# Altium integrated library Altium_WCAP-CSMH (rev20a).IntLib: 102 symbols (part 1 of 2)
Pins are listed as number, name and electrical type; pins without a type are passive.

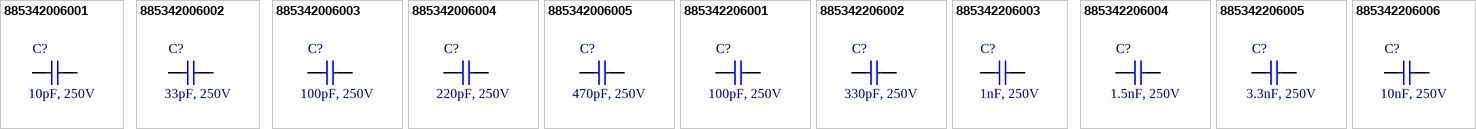
[diagram p0: symbols 885342006001 to 885342206006]

## 885342006001
designator C?, comment 10pF, 250V
WCAP-CSMH Multilayer Ceramic Chip Capacitor, size 0603, NP0 Class I, 10pF, 250V; Manufacturer Part Number: 885342006001; Manufacturer: Wurth Elektronik; Rated Voltage: 250VDC; Insulation Resistance: 10GOhm; Capacitance Tolerance: +/-5%; Technical Reference: NP00603100J250DFCT10000; ComponentLink1Description: Manufacturer; ComponentLink1URL: http://www.we-online.de; ComponentLink2Description: Datasheet; ComponentLink2URL: https://www.we-online.com/catalog/datasheet/885342006001.pdf; Mounting Technology: SMT; Operating Temperature: -55 to +125degC; Published Date: May 2020; Packaging: Tape and Reel; Ceramic Type: NP0 Class I; Capacitance: 10pF; Dissipation Factor: -; Height: 0.8mm; Size: 0603
footprint WCAP-CSMH_0603_H0.8_Wave
footprint WCAP-CSMH_0603_H0.8_Reflow
pins: 1, 2

## 885342006002
designator C?, comment 33pF, 250V
WCAP-CSMH Multilayer Ceramic Chip Capacitor, size 0603, NP0 Class I, 33pF, 250V; Manufacturer Part Number: 885342006002; Manufacturer: Wurth Elektronik; Rated Voltage: 250VDC; Insulation Resistance: 10GOhm; Capacitance Tolerance: +/-5%; Technical Reference: NP00603330J250DFCT10000; ComponentLink1Description: Manufacturer; ComponentLink1URL: http://www.we-online.de; ComponentLink2Description: Datasheet; ComponentLink2URL: https://www.we-online.com/catalog/datasheet/885342006002.pdf; Mounting Technology: SMT; Operating Temperature: -55 to +125degC; Published Date: May 2020; Packaging: Tape and Reel; Ceramic Type: NP0 Class I; Capacitance: 33pF; Dissipation Factor: -; Height: 0.8mm; Size: 0603
footprint WCAP-CSMH_0603_H0.8_Wave
footprint WCAP-CSMH_0603_H0.8_Reflow
pins: 1, 2

## 885342006003
designator C?, comment 100pF, 250V
WCAP-CSMH Multilayer Ceramic Chip Capacitor, size 0603, NP0 Class I, 100pF, 250V; Manufacturer Part Number: 885342006003; Manufacturer: Wurth Elektronik; Rated Voltage: 250VDC; Insulation Resistance: 10GOhm; Capacitance Tolerance: +/-5%; Technical Reference: NP00603101J250DFCT10000; ComponentLink1Description: Manufacturer; ComponentLink1URL: http://www.we-online.de; ComponentLink2Description: Datasheet; ComponentLink2URL: https://www.we-online.com/catalog/datasheet/885342006003.pdf; Mounting Technology: SMT; Operating Temperature: -55 to +125degC; Published Date: May 2020; Packaging: Tape and Reel; Ceramic Type: NP0 Class I; Capacitance: 100pF; Dissipation Factor: -; Height: 0.8mm; Size: 0603
footprint WCAP-CSMH_0603_H0.8_Wave
footprint WCAP-CSMH_0603_H0.8_Reflow
pins: 1, 2

## 885342006004
designator C?, comment 220pF, 250V
WCAP-CSMH Multilayer Ceramic Chip Capacitor, size 0603, NP0 Class I, 220pF, 250V; Manufacturer Part Number: 885342006004; Manufacturer: Wurth Elektronik; Rated Voltage: 250VDC; Insulation Resistance: 10GOhm; Capacitance Tolerance: +/-5%; Technical Reference: NP00603221J250DFCT10000; ComponentLink1Description: Manufacturer; ComponentLink1URL: http://www.we-online.de; ComponentLink2Description: Datasheet; ComponentLink2URL: https://www.we-online.com/catalog/datasheet/885342006004.pdf; Mounting Technology: SMT; Operating Temperature: -55 to +125degC; Published Date: May 2020; Packaging: Tape and Reel; Ceramic Type: NP0 Class I; Capacitance: 220pF; Dissipation Factor: -; Height: 0.8mm; Size: 0603
footprint WCAP-CSMH_0603_H0.8_Wave
footprint WCAP-CSMH_0603_H0.8_Reflow
pins: 1, 2

## 885342006005
designator C?, comment 470pF, 250V
WCAP-CSMH Multilayer Ceramic Chip Capacitor, size 0603, NP0 Class I, 470pF, 250V; Manufacturer Part Number: 885342006005; Manufacturer: Wurth Elektronik; Rated Voltage: 250VDC; Insulation Resistance: 10GOhm; Capacitance Tolerance: +/-5%; Technical Reference: NP00603471J250DFCT10000; ComponentLink1Description: Manufacturer; ComponentLink1URL: http://www.we-online.de; ComponentLink2Description: Datasheet; ComponentLink2URL: https://www.we-online.com/catalog/datasheet/885342006005.pdf; Mounting Technology: SMT; Operating Temperature: -55 to +125degC; Published Date: May 2020; Packaging: Tape and Reel; Ceramic Type: NP0 Class I; Capacitance: 470pF; Dissipation Factor: -; Height: 0.8mm; Size: 0603
footprint WCAP-CSMH_0603_H0.8_Wave
footprint WCAP-CSMH_0603_H0.8_Reflow
pins: 1, 2

## 885342206001
designator C?, comment 100pF, 250V
WCAP-CSMH Multilayer Ceramic Chip Capacitor, size 0603, X7R Class II, 100pF, 250V; Manufacturer Part Number: 885342206001; Manufacturer: Wurth Elektronik; Rated Voltage: 250VDC; Insulation Resistance: 10GOhm; Dissipation Factor: 2.5%; Capacitance Tolerance: +/-10%; Technical Reference: X7R0603101K250DFCT10000; ComponentLink1Description: Manufacturer; ComponentLink1URL: http://www.we-online.de; ComponentLink2Description: Datasheet; ComponentLink2URL: https://www.we-online.com/catalog/datasheet/885342206001.pdf; Mounting Technology: SMT; Operating Temperature: -55 to +125degC; Published Date: May 2020; Packaging: Tape and Reel; Ceramic Type: X7R Class II; Capacitance: 100pF; Height: 0.8mm; Size: 0603
footprint WCAP-CSMH_0603_H0.8_Wave
footprint WCAP-CSMH_0603_H0.8_Reflow
pins: 1, 2

## 885342206002
designator C?, comment 330pF, 250V
WCAP-CSMH Multilayer Ceramic Chip Capacitor, size 0603, X7R Class II, 330pF, 250V; Manufacturer Part Number: 885342206002; Manufacturer: Wurth Elektronik; Rated Voltage: 250VDC; Insulation Resistance: 10GOhm; Dissipation Factor: 2.5%; Capacitance Tolerance: +/-10%; Technical Reference: X7R0603331K250DFCT10000; ComponentLink1Description: Manufacturer; ComponentLink1URL: http://www.we-online.de; ComponentLink2Description: Datasheet; ComponentLink2URL: https://www.we-online.com/catalog/datasheet/885342206002.pdf; Mounting Technology: SMT; Operating Temperature: -55 to +125degC; Published Date: May 2020; Packaging: Tape and Reel; Ceramic Type: X7R Class II; Capacitance: 330pF; Height: 0.8mm; Size: 0603
footprint WCAP-CSMH_0603_H0.8_Wave
footprint WCAP-CSMH_0603_H0.8_Reflow
pins: 1, 2

## 885342206003
designator C?, comment 1nF, 250V
WCAP-CSMH Multilayer Ceramic Chip Capacitor, size 0603, X7R Class II, 1nF, 250V; Manufacturer Part Number: 885342206003; Manufacturer: Wurth Elektronik; Rated Voltage: 250VDC; Insulation Resistance: 10GOhm; Dissipation Factor: 2.5%; Capacitance Tolerance: +/-10%; Technical Reference: X7R0603102K250DFCT10000; ComponentLink1Description: Manufacturer; ComponentLink1URL: http://www.we-online.de; ComponentLink2Description: Datasheet; ComponentLink2URL: https://www.we-online.com/catalog/datasheet/885342206003.pdf; Mounting Technology: SMT; Operating Temperature: -55 to +125degC; Published Date: May 2020; Packaging: Tape and Reel; Ceramic Type: X7R Class II; Capacitance: 1nF; Height: 0.8mm; Size: 0603
footprint WCAP-CSMH_0603_H0.8_Wave
footprint WCAP-CSMH_0603_H0.8_Reflow
pins: 1, 2

## 885342206004
designator C?, comment 1.5nF, 250V
WCAP-CSMH Multilayer Ceramic Chip Capacitor, size 0603, X7R Class II, 1.5nF, 250V; Manufacturer Part Number: 885342206004; Manufacturer: Wurth Elektronik; Rated Voltage: 250VDC; Insulation Resistance: 10GOhm; Dissipation Factor: 2.5%; Capacitance Tolerance: +/-10%; Technical Reference: X7R0603152K250DFCT10000; ComponentLink1Description: Manufacturer; ComponentLink1URL: http://www.we-online.de; ComponentLink2Description: Datasheet; ComponentLink2URL: https://www.we-online.com/catalog/datasheet/885342206004.pdf; Mounting Technology: SMT; Operating Temperature: -55 to +125degC; Published Date: May 2020; Packaging: Tape and Reel; Ceramic Type: X7R Class II; Capacitance: 1.5nF; Height: 0.8mm; Size: 0603
footprint WCAP-CSMH_0603_H0.8_Wave
footprint WCAP-CSMH_0603_H0.8_Reflow
pins: 1, 2

## 885342206005
designator C?, comment 3.3nF, 250V
WCAP-CSMH Multilayer Ceramic Chip Capacitor, size 0603, X7R Class II, 3.3nF, 250V; Manufacturer Part Number: 885342206005; Manufacturer: Wurth Elektronik; Rated Voltage: 250VDC; Insulation Resistance: 10GOhm; Dissipation Factor: 2.5%; Capacitance Tolerance: +/-10%; Technical Reference: X7R0603332K250DFCT10000; ComponentLink1Description: Manufacturer; ComponentLink1URL: http://www.we-online.de; ComponentLink2Description: Datasheet; ComponentLink2URL: https://www.we-online.com/catalog/datasheet/885342206005.pdf; Mounting Technology: SMT; Operating Temperature: -55 to +125degC; Published Date: May 2020; Packaging: Tape and Reel; Ceramic Type: X7R Class II; Capacitance: 3.3nF; Height: 0.8mm; Size: 0603
footprint WCAP-CSMH_0603_H0.8_Wave
footprint WCAP-CSMH_0603_H0.8_Reflow
pins: 1, 2

## 885342206006
designator C?, comment 10nF, 250V
WCAP-CSMH Multilayer Ceramic Chip Capacitor, size 0603, X7R Class II, 10nF, 250V; Manufacturer Part Number: 885342206006; Manufacturer: Wurth Elektronik; Rated Voltage: 250VDC; Insulation Resistance: 10GOhm; Dissipation Factor: 2.5%; Capacitance Tolerance: +/-10%; Technical Reference: X7R0603103K250DFCT10000; ComponentLink1Description: Manufacturer; ComponentLink1URL: http://www.we-online.de; ComponentLink2Description: Datasheet; ComponentLink2URL: https://www.we-online.com/catalog/datasheet/885342206006.pdf; Mounting Technology: SMT; Operating Temperature: -55 to +125degC; Published Date: May 2020; Packaging: Tape and Reel; Ceramic Type: X7R Class II; Capacitance: 10nF; Height: 0.8mm; Size: 0603
footprint WCAP-CSMH_0603_H0.8_Wave
footprint WCAP-CSMH_0603_H0.8_Reflow
pins: 1, 2


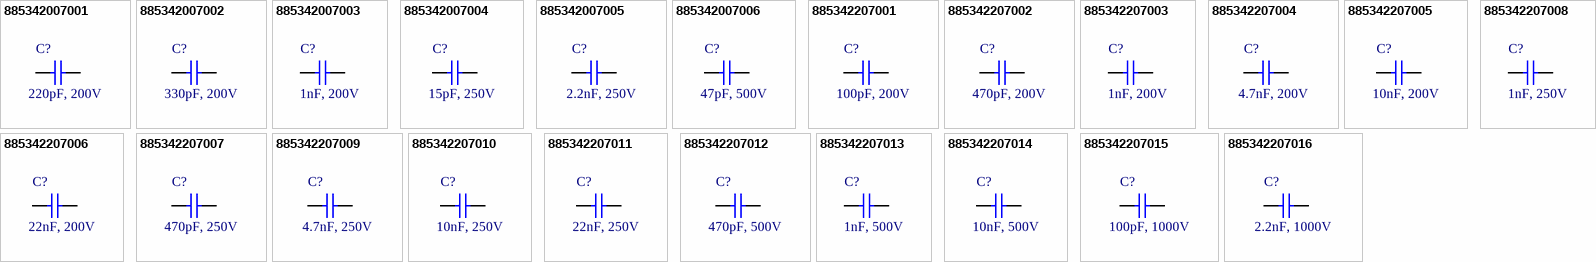
[diagram p1: symbols 885342007001 to 885342207016]

## 885342007001
designator C?, comment 220pF, 200V
WCAP-CSMH Multilayer Ceramic Chip Capacitor, size 0805, NP0 Class I, 220pF, 200V; Manufacturer Part Number: 885342007001; Manufacturer: Wurth Elektronik; Rated Voltage: 200VDC; Insulation Resistance: 10GOhm; Capacitance Tolerance: +/-5%; Technical Reference: NP00805221J200DFCT10000; ComponentLink1Description: Manufacturer; ComponentLink1URL: http://www.we-online.de; ComponentLink2Description: Datasheet; ComponentLink2URL: https://www.we-online.com/catalog/datasheet/885342007001.pdf; Mounting Technology: SMT; Operating Temperature: -55 to +125degC; Published Date: May 2020; Packaging: Tape and Reel; Ceramic Type: NP0 Class I; Capacitance: 220pF; Dissipation Factor: -; Height: 1.25mm; Size: 0805
footprint WCAP-CSMH_0805_H1.25
pins: 1, 2

## 885342007002
designator C?, comment 330pF, 200V
WCAP-CSMH Multilayer Ceramic Chip Capacitor, size 0805, NP0 Class I, 330pF, 200V; Manufacturer Part Number: 885342007002; Manufacturer: Wurth Elektronik; Rated Voltage: 200VDC; Insulation Resistance: 10GOhm; Capacitance Tolerance: +/-5%; Technical Reference: NP00805331J200DFCT10000; ComponentLink1Description: Manufacturer; ComponentLink1URL: http://www.we-online.de; ComponentLink2Description: Datasheet; ComponentLink2URL: https://www.we-online.com/catalog/datasheet/885342007002.pdf; Mounting Technology: SMT; Operating Temperature: -55 to +125degC; Published Date: May 2020; Packaging: Tape and Reel; Ceramic Type: NP0 Class I; Capacitance: 330pF; Dissipation Factor: -; Height: 1.25mm; Size: 0805
footprint WCAP-CSMH_0805_H1.25
pins: 1, 2

## 885342007003
designator C?, comment 1nF, 200V
WCAP-CSMH Multilayer Ceramic Chip Capacitor, size 0805, NP0 Class I, 1nF, 200V; Manufacturer Part Number: 885342007003; Manufacturer: Wurth Elektronik; Rated Voltage: 200VDC; Insulation Resistance: 10GOhm; Capacitance Tolerance: +/-5%; Technical Reference: NP00805102J200DFCT10000; ComponentLink1Description: Manufacturer; ComponentLink1URL: http://www.we-online.de; ComponentLink2Description: Datasheet; ComponentLink2URL: https://www.we-online.com/catalog/datasheet/885342007003.pdf; Mounting Technology: SMT; Operating Temperature: -55 to +125degC; Published Date: May 2020; Packaging: Tape and Reel; Ceramic Type: NP0 Class I; Capacitance: 1nF; Dissipation Factor: -; Height: 1.25mm; Size: 0805
footprint WCAP-CSMH_0805_H1.25
pins: 1, 2

## 885342007004
designator C?, comment 15pF, 250V
WCAP-CSMH Multilayer Ceramic Chip Capacitor, size 0805, NP0 Class I, 15pF, 250V; Manufacturer Part Number: 885342007004; Manufacturer: Wurth Elektronik; Rated Voltage: 250VDC; Insulation Resistance: 10GOhm; Capacitance Tolerance: +/-5%; Technical Reference: NP00805150J250DFCT10000; ComponentLink1Description: Manufacturer; ComponentLink1URL: http://www.we-online.de; ComponentLink2Description: Datasheet; ComponentLink2URL: https://www.we-online.com/catalog/datasheet/885342007004.pdf; Mounting Technology: SMT; Operating Temperature: -55 to +125degC; Published Date: May 2020; Packaging: Tape and Reel; Ceramic Type: NP0 Class I; Capacitance: 15pF; Dissipation Factor: -; Height: 0.6mm; Size: 0805
footprint WCAP-CSMH_0805_H0.6_Wave
footprint WCAP-CSMH_0805_H0.6_Reflow
pins: 1, 2

## 885342007005
designator C?, comment 2.2nF, 250V
WCAP-CSMH Multilayer Ceramic Chip Capacitor, size 0805, NP0 Class I, 2.2nF, 250V; Manufacturer Part Number: 885342007005; Manufacturer: Wurth Elektronik; Rated Voltage: 250VDC; Insulation Resistance: 10GOhm; Capacitance Tolerance: +/-5%; Technical Reference: NP00805222J250DFCT10000; ComponentLink1Description: Manufacturer; ComponentLink1URL: http://www.we-online.de; ComponentLink2Description: Datasheet; ComponentLink2URL: https://www.we-online.com/catalog/datasheet/885342007005.pdf; Mounting Technology: SMT; Operating Temperature: -55 to +125degC; Published Date: May 2020; Packaging: Tape and Reel; Ceramic Type: NP0 Class I; Capacitance: 2.2nF; Dissipation Factor: -; Height: 1.25mm; Size: 0805
footprint WCAP-CSMH_0805_H1.25
pins: 1, 2

## 885342007006
designator C?, comment 47pF, 500V
WCAP-CSMH Multilayer Ceramic Chip Capacitor, size 0805, NP0 Class I, 47pF, 500V; Manufacturer Part Number: 885342007006; Manufacturer: Wurth Elektronik; Rated Voltage: 500VDC; Insulation Resistance: 10GOhm; Capacitance Tolerance: +/-5%; Technical Reference: NP00805470J500DFCT10000; ComponentLink1Description: Manufacturer; ComponentLink1URL: http://www.we-online.de; ComponentLink2Description: Datasheet; ComponentLink2URL: https://www.we-online.com/catalog/datasheet/885342007006.pdf; Mounting Technology: SMT; Operating Temperature: -55 to +125degC; Published Date: May 2020; Packaging: Tape and Reel; Ceramic Type: NP0 Class I; Capacitance: 47pF; Dissipation Factor: -; Height: 0.6mm; Size: 0805
footprint WCAP-CSMH_0805_H0.6_Wave
footprint WCAP-CSMH_0805_H0.6_Reflow
pins: 1, 2

## 885342207001
designator C?, comment 100pF, 200V
WCAP-CSMH Multilayer Ceramic Chip Capacitor, size 0805, X7R Class II, 100pF, 200V; Manufacturer Part Number: 885342207001; Manufacturer: Wurth Elektronik; Rated Voltage: 200VDC; Insulation Resistance: 10GOhm; Dissipation Factor: 2.5%; Capacitance Tolerance: +/-10%; Technical Reference: X7R0805101K200DFCT10000; ComponentLink1Description: Manufacturer; ComponentLink1URL: http://www.we-online.de; ComponentLink2Description: Datasheet; ComponentLink2URL: https://www.we-online.com/catalog/datasheet/885342207001.pdf; Mounting Technology: SMT; Operating Temperature: -55 to +125degC; Published Date: May 2020; Packaging: Tape and Reel; Ceramic Type: X7R Class II; Capacitance: 100pF; Height: 0.8mm; Size: 0805
footprint WCAP-CSMH_0805_H0.8_Wave
footprint WCAP-CSMH_0805_H0.8_Reflow
pins: 1, 2

## 885342207002
designator C?, comment 470pF, 200V
WCAP-CSMH Multilayer Ceramic Chip Capacitor, size 0805, X7R Class II, 470pF, 200V; Manufacturer Part Number: 885342207002; Manufacturer: Wurth Elektronik; Rated Voltage: 200VDC; Insulation Resistance: 10GOhm; Dissipation Factor: 2.5%; Capacitance Tolerance: +/-10%; Technical Reference: X7R0805471K200DFCT10000; ComponentLink1Description: Manufacturer; ComponentLink1URL: http://www.we-online.de; ComponentLink2Description: Datasheet; ComponentLink2URL: https://www.we-online.com/catalog/datasheet/885342207002.pdf; Mounting Technology: SMT; Operating Temperature: -55 to +125degC; Published Date: May 2020; Packaging: Tape and Reel; Ceramic Type: X7R Class II; Capacitance: 470pF; Height: 0.8mm; Size: 0805
footprint WCAP-CSMH_0805_H0.8_Wave
footprint WCAP-CSMH_0805_H0.8_Reflow
pins: 1, 2

## 885342207003
designator C?, comment 1nF, 200V
WCAP-CSMH Multilayer Ceramic Chip Capacitor, size 0805, X7R Class II, 1nF, 200V; Manufacturer Part Number: 885342207003; Manufacturer: Wurth Elektronik; Rated Voltage: 200VDC; Insulation Resistance: 10GOhm; Dissipation Factor: 2.5%; Capacitance Tolerance: +/-10%; Technical Reference: X7R0805102K200DFCT10000; ComponentLink1Description: Manufacturer; ComponentLink1URL: http://www.we-online.de; ComponentLink2Description: Datasheet; ComponentLink2URL: https://www.we-online.com/catalog/datasheet/885342207003.pdf; Mounting Technology: SMT; Operating Temperature: -55 to +125degC; Published Date: May 2020; Packaging: Tape and Reel; Ceramic Type: X7R Class II; Capacitance: 1nF; Height: 0.8mm; Size: 0805
footprint WCAP-CSMH_0805_H0.8_Wave
footprint WCAP-CSMH_0805_H0.8_Reflow
pins: 1, 2

## 885342207004
designator C?, comment 4.7nF, 200V
WCAP-CSMH Multilayer Ceramic Chip Capacitor, size 0805, X7R Class II, 4.7nF, 200V; Manufacturer Part Number: 885342207004; Manufacturer: Wurth Elektronik; Rated Voltage: 200VDC; Insulation Resistance: 10GOhm; Dissipation Factor: 2.5%; Capacitance Tolerance: +/-10%; Technical Reference: X7R0805472K200DFCT10000; ComponentLink1Description: Manufacturer; ComponentLink1URL: http://www.we-online.de; ComponentLink2Description: Datasheet; ComponentLink2URL: https://www.we-online.com/catalog/datasheet/885342207004.pdf; Mounting Technology: SMT; Operating Temperature: -55 to +125degC; Published Date: May 2020; Packaging: Tape and Reel; Ceramic Type: X7R Class II; Capacitance: 4.7nF; Height: 0.8mm; Size: 0805
footprint WCAP-CSMH_0805_H0.8_Wave
footprint WCAP-CSMH_0805_H0.8_Reflow
pins: 1, 2

## 885342207005
designator C?, comment 10nF, 200V
WCAP-CSMH Multilayer Ceramic Chip Capacitor, size 0805, X7R Class II, 10nF, 200V; Manufacturer Part Number: 885342207005; Manufacturer: Wurth Elektronik; Rated Voltage: 200VDC; Insulation Resistance: 10GOhm; Dissipation Factor: 2.5%; Capacitance Tolerance: +/-10%; Technical Reference: X7R0805103K200DFCT10000; ComponentLink1Description: Manufacturer; ComponentLink1URL: http://www.we-online.de; ComponentLink2Description: Datasheet; ComponentLink2URL: https://www.we-online.com/catalog/datasheet/885342207005.pdf; Mounting Technology: SMT; Operating Temperature: -55 to +125degC; Published Date: May 2020; Packaging: Tape and Reel; Ceramic Type: X7R Class II; Capacitance: 10nF; Height: 1.25mm; Size: 0805
footprint WCAP-CSMH_0805_H1.25
pins: 1, 2

## 885342207006
designator C?, comment 22nF, 200V
WCAP-CSMH Multilayer Ceramic Chip Capacitor, size 0805, X7R Class II, 22nF, 200V; Manufacturer Part Number: 885342207006; Manufacturer: Wurth Elektronik; Rated Voltage: 200VDC; Insulation Resistance: 4.545GOhm; Dissipation Factor: 2.5%; Capacitance Tolerance: +/-10%; Technical Reference: X7R0805223K200DFCT10000; ComponentLink1Description: Manufacturer; ComponentLink1URL: http://www.we-online.de; ComponentLink2Description: Datasheet; ComponentLink2URL: https://www.we-online.com/catalog/datasheet/885342207006.pdf; Mounting Technology: SMT; Operating Temperature: -55 to +125degC; Published Date: May 2020; Packaging: Tape and Reel; Ceramic Type: X7R Class II; Capacitance: 22nF; Height: 1.25mm; Size: 0805
footprint WCAP-CSMH_0805_H1.25
pins: 1, 2

## 885342207007
designator C?, comment 470pF, 250V
WCAP-CSMH Multilayer Ceramic Chip Capacitor, size 0805, X7R Class II, 470pF, 250V; Manufacturer Part Number: 885342207007; Manufacturer: Wurth Elektronik; Rated Voltage: 250VDC; Insulation Resistance: 10GOhm; Dissipation Factor: 2.5%; Capacitance Tolerance: +/-10%; Technical Reference: X7R0805471K250DFCT10000; ComponentLink1Description: Manufacturer; ComponentLink1URL: http://www.we-online.de; ComponentLink2Description: Datasheet; ComponentLink2URL: https://www.we-online.com/catalog/datasheet/885342207007.pdf; Mounting Technology: SMT; Operating Temperature: -55 to +125degC; Published Date: May 2020; Packaging: Tape and Reel; Ceramic Type: X7R Class II; Capacitance: 470pF; Height: 0.8mm; Size: 0805
footprint WCAP-CSMH_0805_H0.8_Wave
footprint WCAP-CSMH_0805_H0.8_Reflow
pins: 1, 2

## 885342207008
designator C?, comment 1nF, 250V
WCAP-CSMH Multilayer Ceramic Chip Capacitor, size 0805, X7R Class II, 1nF, 250V; Manufacturer Part Number: 885342207008; Manufacturer: Wurth Elektronik; Rated Voltage: 250VDC; Insulation Resistance: 10GOhm; Dissipation Factor: 2.5%; Capacitance Tolerance: +/-10%; Technical Reference: X7R0805102K250DFCT10000; ComponentLink1Description: Manufacturer; ComponentLink1URL: http://www.we-online.de; ComponentLink2Description: Datasheet; ComponentLink2URL: https://www.we-online.com/catalog/datasheet/885342207008.pdf; Mounting Technology: SMT; Operating Temperature: -55 to +125degC; Published Date: May 2020; Packaging: Tape and Reel; Ceramic Type: X7R Class II; Capacitance: 1nF; Height: 0.8mm; Size: 0805
footprint WCAP-CSMH_0805_H0.8_Wave
footprint WCAP-CSMH_0805_H0.8_Reflow
pins: 1, 2

## 885342207009
designator C?, comment 4.7nF, 250V
WCAP-CSMH Multilayer Ceramic Chip Capacitor, size 0805, X7R Class II, 4.7nF, 250V; Manufacturer Part Number: 885342207009; Manufacturer: Wurth Elektronik; Rated Voltage: 250VDC; Insulation Resistance: 10GOhm; Dissipation Factor: 2.5%; Capacitance Tolerance: +/-10%; Technical Reference: X7R0805472K250DFCT10000; ComponentLink1Description: Manufacturer; ComponentLink1URL: http://www.we-online.de; ComponentLink2Description: Datasheet; ComponentLink2URL: https://www.we-online.com/catalog/datasheet/885342207009.pdf; Mounting Technology: SMT; Operating Temperature: -55 to +125degC; Published Date: May 2020; Packaging: Tape and Reel; Ceramic Type: X7R Class II; Capacitance: 4.7nF; Height: 0.8mm; Size: 0805
footprint WCAP-CSMH_0805_H0.8_Wave
footprint WCAP-CSMH_0805_H0.8_Reflow
pins: 1, 2

## 885342207010
designator C?, comment 10nF, 250V
WCAP-CSMH Multilayer Ceramic Chip Capacitor, size 0805, X7R Class II, 10nF, 250V; Manufacturer Part Number: 885342207010; Manufacturer: Wurth Elektronik; Rated Voltage: 250VDC; Insulation Resistance: 10GOhm; Dissipation Factor: 2.5%; Capacitance Tolerance: +/-10%; Technical Reference: X7R0805103K250DFCT10000; ComponentLink1Description: Manufacturer; ComponentLink1URL: http://www.we-online.de; ComponentLink2Description: Datasheet; ComponentLink2URL: https://www.we-online.com/catalog/datasheet/885342207010.pdf; Mounting Technology: SMT; Operating Temperature: -55 to +125degC; Published Date: May 2020; Packaging: Tape and Reel; Ceramic Type: X7R Class II; Capacitance: 10nF; Height: 1.25mm; Size: 0805
footprint WCAP-CSMH_0805_H1.25
pins: 1, 2

## 885342207011
designator C?, comment 22nF, 250V
WCAP-CSMH Multilayer Ceramic Chip Capacitor, size 0805, X7R Class II, 22nF, 250V; Manufacturer Part Number: 885342207011; Manufacturer: Wurth Elektronik; Rated Voltage: 250VDC; Insulation Resistance: 4.545GOhm; Dissipation Factor: 2.5%; Capacitance Tolerance: +/-10%; Technical Reference: X7R0805223K250DFCT10000; ComponentLink1Description: Manufacturer; ComponentLink1URL: http://www.we-online.de; ComponentLink2Description: Datasheet; ComponentLink2URL: https://www.we-online.com/catalog/datasheet/885342207011.pdf; Mounting Technology: SMT; Operating Temperature: -55 to +125degC; Published Date: May 2020; Packaging: Tape and Reel; Ceramic Type: X7R Class II; Capacitance: 22nF; Height: 1.25mm; Size: 0805
footprint WCAP-CSMH_0805_H1.25
pins: 1, 2

## 885342207012
designator C?, comment 470pF, 500V
WCAP-CSMH Multilayer Ceramic Chip Capacitor, size 0805, X7R Class II, 470pF, 500V; Manufacturer Part Number: 885342207012; Manufacturer: Wurth Elektronik; Rated Voltage: 500VDC; Insulation Resistance: 10GOhm; Dissipation Factor: 2.5%; Capacitance Tolerance: +/-10%; Technical Reference: X7R0805471K500DFCT10000; ComponentLink1Description: Manufacturer; ComponentLink1URL: http://www.we-online.de; ComponentLink2Description: Datasheet; ComponentLink2URL: https://www.we-online.com/catalog/datasheet/885342207012.pdf; Mounting Technology: SMT; Operating Temperature: -55 to +125degC; Published Date: May 2020; Packaging: Tape and Reel; Ceramic Type: X7R Class II; Capacitance: 470pF; Height: 0.8mm; Size: 0805
footprint WCAP-CSMH_0805_H0.8_Wave
footprint WCAP-CSMH_0805_H0.8_Reflow
pins: 1, 2

## 885342207013
designator C?, comment 1nF, 500V
WCAP-CSMH Multilayer Ceramic Chip Capacitor, size 0805, X7R Class II, 1nF, 500V; Manufacturer Part Number: 885342207013; Manufacturer: Wurth Elektronik; Rated Voltage: 500VDC; Insulation Resistance: 10GOhm; Dissipation Factor: 2.5%; Capacitance Tolerance: +/-10%; Technical Reference: X7R0805102K500DFCT10000; ComponentLink1Description: Manufacturer; ComponentLink1URL: http://www.we-online.de; ComponentLink2Description: Datasheet; ComponentLink2URL: https://www.we-online.com/catalog/datasheet/885342207013.pdf; Mounting Technology: SMT; Operating Temperature: -55 to +125degC; Published Date: May 2020; Packaging: Tape and Reel; Ceramic Type: X7R Class II; Capacitance: 1nF; Height: 0.8mm; Size: 0805
footprint WCAP-CSMH_0805_H0.8_Wave
footprint WCAP-CSMH_0805_H0.8_Reflow
pins: 1, 2

## 885342207014
designator C?, comment 10nF, 500V
WCAP-CSMH Multilayer Ceramic Chip Capacitor, size 0805, X7R Class II, 10nF, 500V; Manufacturer Part Number: 885342207014; Manufacturer: Wurth Elektronik; Rated Voltage: 500VDC; Insulation Resistance: 10GOhm; Dissipation Factor: 2.5%; Capacitance Tolerance: +/-10%; Technical Reference: X7R0805103K500DFCT10000; ComponentLink1Description: Manufacturer; ComponentLink1URL: http://www.we-online.de; ComponentLink2Description: Datasheet; ComponentLink2URL: https://www.we-online.com/catalog/datasheet/885342207014.pdf; Mounting Technology: SMT; Operating Temperature: -55 to +125degC; Published Date: May 2020; Packaging: Tape and Reel; Ceramic Type: X7R Class II; Capacitance: 10nF; Height: 1.25mm; Size: 0805
footprint WCAP-CSMH_0805_H1.25
pins: 1, 2

## 885342207015
designator C?, comment 100pF, 1000V
WCAP-CSMH Multilayer Ceramic Chip Capacitor, size 0805, X7R Class II, 100pF, 1000V; Manufacturer Part Number: 885342207015; Manufacturer: Wurth Elektronik; Rated Voltage: 1000VDC; Insulation Resistance: 10GOhm; Dissipation Factor: 2.5%; Capacitance Tolerance: +/-10%; Technical Reference: X7R0805101KA00DFCT10000; ComponentLink1Description: Manufacturer; ComponentLink1URL: http://www.we-online.de; ComponentLink2Description: Datasheet; ComponentLink2URL: https://www.we-online.com/catalog/datasheet/885342207015.pdf; Mounting Technology: SMT; Operating Temperature: -55 to +125degC; Published Date: May 2020; Packaging: Tape and Reel; Ceramic Type: X7R Class II; Capacitance: 100pF; Height: 1.25mm; Size: 0805
footprint WCAP-CSMH_0805_H1.25
pins: 1, 2

## 885342207016
designator C?, comment 2.2nF, 1000V
WCAP-CSMH Multilayer Ceramic Chip Capacitor, size 0805, X7R Class II, 2.2nF, 1000V; Manufacturer Part Number: 885342207016; Manufacturer: Wurth Elektronik; Rated Voltage: 1000VDC; Insulation Resistance: 10GOhm; Dissipation Factor: 2.5%; Capacitance Tolerance: +/-10%; Technical Reference: X7R0805222KA00DFCT10000; ComponentLink1Description: Manufacturer; ComponentLink1URL: http://www.we-online.de; ComponentLink2Description: Datasheet; ComponentLink2URL: https://www.we-online.com/catalog/datasheet/885342207016.pdf; Mounting Technology: SMT; Operating Temperature: -55 to +125degC; Published Date: May 2020; Packaging: Tape and Reel; Ceramic Type: X7R Class II; Capacitance: 2.2nF; Height: 1.25mm; Size: 0805
footprint WCAP-CSMH_0805_H1.25
pins: 1, 2


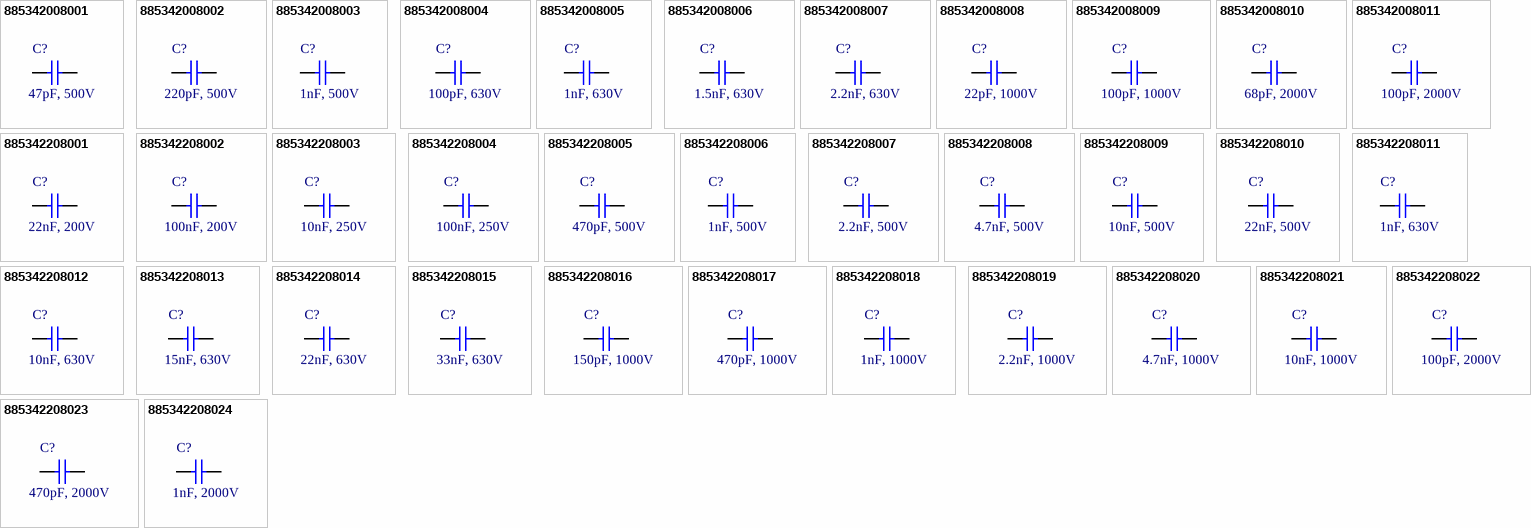
[diagram p2: symbols 885342008001 to 885342208024]

## 885342008001
designator C?, comment 47pF, 500V
WCAP-CSMH Multilayer Ceramic Chip Capacitor, size 1206, NP0 Class I, 47pF, 500V; Manufacturer Part Number: 885342008001; Manufacturer: Wurth Elektronik; Rated Voltage: 500VDC; Insulation Resistance: 10GOhm; Capacitance Tolerance: +/-5%; Technical Reference: NP01206470J500DFCT10000; ComponentLink1Description: Manufacturer; ComponentLink1URL: http://www.we-online.de; ComponentLink2Description: Datasheet; ComponentLink2URL: https://www.we-online.com/catalog/datasheet/885342008001.pdf; Mounting Technology: SMT; Operating Temperature: -55 to +125degC; Published Date: May 2020; Packaging: Tape and Reel; Ceramic Type: NP0 Class I; Capacitance: 47pF; Dissipation Factor: -; Height: 0.8mm; Size: 1206
footprint WCAP-CSMH_1206_H0.8_Wave
footprint WCAP-CSMH_1206_H0.8_Reflow
pins: 1, 2

## 885342008002
designator C?, comment 220pF, 500V
WCAP-CSMH Multilayer Ceramic Chip Capacitor, size 1206, NP0 Class I, 220pF, 500V; Manufacturer Part Number: 885342008002; Manufacturer: Wurth Elektronik; Rated Voltage: 500VDC; Insulation Resistance: 10GOhm; Capacitance Tolerance: +/-5%; Technical Reference: NP01206221J500DFCT10000; ComponentLink1Description: Manufacturer; ComponentLink1URL: http://www.we-online.de; ComponentLink2Description: Datasheet; ComponentLink2URL: https://www.we-online.com/catalog/datasheet/885342008002.pdf; Mounting Technology: SMT; Operating Temperature: -55 to +125degC; Published Date: May 2020; Packaging: Tape and Reel; Ceramic Type: NP0 Class I; Capacitance: 220pF; Dissipation Factor: -; Height: 0.8mm; Size: 1206
footprint WCAP-CSMH_1206_H0.8_Wave
footprint WCAP-CSMH_1206_H0.8_Reflow
pins: 1, 2

## 885342008003
designator C?, comment 1nF, 500V
WCAP-CSMH Multilayer Ceramic Chip Capacitor, size 1206, NP0 Class I, 1nF, 500V; Manufacturer Part Number: 885342008003; Manufacturer: Wurth Elektronik; Rated Voltage: 500VDC; Insulation Resistance: 10GOhm; Capacitance Tolerance: +/-5%; Technical Reference: NP01206102J500DFCT10000; ComponentLink1Description: Manufacturer; ComponentLink1URL: http://www.we-online.de; ComponentLink2Description: Datasheet; ComponentLink2URL: https://www.we-online.com/catalog/datasheet/885342008003.pdf; Mounting Technology: SMT; Operating Temperature: -55 to +125degC; Published Date: May 2020; Packaging: Tape and Reel; Ceramic Type: NP0 Class I; Capacitance: 1nF; Dissipation Factor: -; Height: 1.6mm; Size: 1206
footprint WCAP-CSMH_1206_H1.6
pins: 1, 2

## 885342008004
designator C?, comment 100pF, 630V
WCAP-CSMH Multilayer Ceramic Chip Capacitor, size 1206, NP0 Class I, 100pF, 630V; Manufacturer Part Number: 885342008004; Manufacturer: Wurth Elektronik; Rated Voltage: 630VDC; Insulation Resistance: 10GOhm; Capacitance Tolerance: +/-5%; Technical Reference: NP01206101J630DFCT10000; ComponentLink1Description: Manufacturer; ComponentLink1URL: http://www.we-online.de; ComponentLink2Description: Datasheet; ComponentLink2URL: https://www.we-online.com/catalog/datasheet/885342008004.pdf; Mounting Technology: SMT; Operating Temperature: -55 to +125degC; Published Date: May 2020; Packaging: Tape and Reel; Ceramic Type: NP0 Class I; Capacitance: 100pF; Dissipation Factor: -; Height: 0.8mm; Size: 1206
footprint WCAP-CSMH_1206_H0.8_Wave
footprint WCAP-CSMH_1206_H0.8_Reflow
pins: 1, 2

## 885342008005
designator C?, comment 1nF, 630V
WCAP-CSMH Multilayer Ceramic Chip Capacitor, size 1206, NP0 Class I, 1nF, 630V; Manufacturer Part Number: 885342008005; Manufacturer: Wurth Elektronik; Rated Voltage: 630VDC; Insulation Resistance: 10GOhm; Capacitance Tolerance: +/-5%; Technical Reference: NP01206102J630DFCT10000; ComponentLink1Description: Manufacturer; ComponentLink1URL: http://www.we-online.de; ComponentLink2Description: Datasheet; ComponentLink2URL: https://www.we-online.com/catalog/datasheet/885342008005.pdf; Mounting Technology: SMT; Operating Temperature: -55 to +125degC; Published Date: May 2020; Packaging: Tape and Reel; Ceramic Type: NP0 Class I; Capacitance: 1nF; Dissipation Factor: -; Height: 1.6mm; Size: 1206
footprint WCAP-CSMH_1206_H1.6
pins: 1, 2

## 885342008006
designator C?, comment 1.5nF, 630V
WCAP-CSMH Multilayer Ceramic Chip Capacitor, size 1206, NP0 Class I, 1.5nF, 630V; Manufacturer Part Number: 885342008006; Manufacturer: Wurth Elektronik; Rated Voltage: 630VDC; Insulation Resistance: 10GOhm; Capacitance Tolerance: +/-5%; Technical Reference: NP01206152J630DFCT10000; ComponentLink1Description: Manufacturer; ComponentLink1URL: http://www.we-online.de; ComponentLink2Description: Datasheet; ComponentLink2URL: https://www.we-online.com/catalog/datasheet/885342008006.pdf; Mounting Technology: SMT; Operating Temperature: -55 to +125degC; Published Date: May 2020; Packaging: Tape and Reel; Ceramic Type: NP0 Class I; Capacitance: 1.5nF; Dissipation Factor: -; Height: 1.6mm; Size: 1206
footprint WCAP-CSMH_1206_H1.6
pins: 1, 2

## 885342008007
designator C?, comment 2.2nF, 630V
WCAP-CSMH Multilayer Ceramic Chip Capacitor, size 1206, NP0 Class I, 2.2nF, 630V; Manufacturer Part Number: 885342008007; Manufacturer: Wurth Elektronik; Rated Voltage: 630VDC; Insulation Resistance: 10GOhm; Capacitance Tolerance: +/-5%; Technical Reference: NP01206222J630DFCT10000; ComponentLink1Description: Manufacturer; ComponentLink1URL: http://www.we-online.de; ComponentLink2Description: Datasheet; ComponentLink2URL: https://www.we-online.com/catalog/datasheet/885342008007.pdf; Mounting Technology: SMT; Operating Temperature: -55 to +125degC; Published Date: May 2020; Packaging: Tape and Reel; Ceramic Type: NP0 Class I; Capacitance: 2.2nF; Dissipation Factor: -; Height: 1.6mm; Size: 1206
footprint WCAP-CSMH_1206_H1.6
pins: 1, 2

## 885342008008
designator C?, comment 22pF, 1000V
WCAP-CSMH Multilayer Ceramic Chip Capacitor, size 1206, NP0 Class I, 22pF, 1000V; Manufacturer Part Number: 885342008008; Manufacturer: Wurth Elektronik; Rated Voltage: 1000VDC; Insulation Resistance: 10GOhm; Capacitance Tolerance: +/-5%; Technical Reference: NP01206220JA00DFCT10000; ComponentLink1Description: Manufacturer; ComponentLink1URL: http://www.we-online.de; ComponentLink2Description: Datasheet; ComponentLink2URL: https://www.we-online.com/catalog/datasheet/885342008008.pdf; Mounting Technology: SMT; Operating Temperature: -55 to +125degC; Published Date: May 2020; Packaging: Tape and Reel; Ceramic Type: NP0 Class I; Capacitance: 22pF; Dissipation Factor: -; Height: 0.8mm; Size: 1206
footprint WCAP-CSMH_1206_H0.8_Wave
footprint WCAP-CSMH_1206_H0.8_Reflow
pins: 1, 2

## 885342008009
designator C?, comment 100pF, 1000V
WCAP-CSMH Multilayer Ceramic Chip Capacitor, size 1206, NP0 Class I, 100pF, 1000V; Manufacturer Part Number: 885342008009; Manufacturer: Wurth Elektronik; Rated Voltage: 1000VDC; Insulation Resistance: 10GOhm; Capacitance Tolerance: +/-5%; Technical Reference: NP01206101JA00DFCT10000; ComponentLink1Description: Manufacturer; ComponentLink1URL: http://www.we-online.de; ComponentLink2Description: Datasheet; ComponentLink2URL: https://www.we-online.com/catalog/datasheet/885342008009.pdf; Mounting Technology: SMT; Operating Temperature: -55 to +125degC; Published Date: May 2020; Packaging: Tape and Reel; Ceramic Type: NP0 Class I; Capacitance: 100pF; Dissipation Factor: -; Height: 1.25mm; Size: 1206
footprint WCAP-CSMH_1206_H1.25
pins: 1, 2

## 885342008010
designator C?, comment 68pF, 2000V
WCAP-CSMH Multilayer Ceramic Chip Capacitor, size 1206, NP0 Class I, 68pF, 2000V; Manufacturer Part Number: 885342008010; Manufacturer: Wurth Elektronik; Rated Voltage: 2000VDC; Insulation Resistance: 10GOhm; Capacitance Tolerance: +/-5%; Technical Reference: NP01206680JB00DFCT10000; ComponentLink1Description: Manufacturer; ComponentLink1URL: http://www.we-online.de; ComponentLink2Description: Datasheet; ComponentLink2URL: https://www.we-online.com/catalog/datasheet/885342008010.pdf; Mounting Technology: SMT; Operating Temperature: -55 to +125degC; Published Date: May 2020; Packaging: Tape and Reel; Ceramic Type: NP0 Class I; Capacitance: 68pF; Dissipation Factor: -; Height: 1.25mm; Size: 1206
footprint WCAP-CSMH_1206_H1.25
pins: 1, 2

## 885342008011
designator C?, comment 100pF, 2000V
WCAP-CSMH Multilayer Ceramic Chip Capacitor, size 1206, NP0 Class I, 100pF, 2000V; Manufacturer Part Number: 885342008011; Manufacturer: Wurth Elektronik; Rated Voltage: 2000VDC; Insulation Resistance: 10GOhm; Capacitance Tolerance: +/-5%; Technical Reference: NP01206101JB00DFCT10000; ComponentLink1Description: Manufacturer; ComponentLink1URL: http://www.we-online.de; ComponentLink2Description: Datasheet; ComponentLink2URL: https://www.we-online.com/catalog/datasheet/885342008011.pdf; Mounting Technology: SMT; Operating Temperature: -55 to +125degC; Published Date: May 2020; Packaging: Tape and Reel; Ceramic Type: NP0 Class I; Capacitance: 100pF; Dissipation Factor: -; Height: 1.25mm; Size: 1206
footprint WCAP-CSMH_1206_H1.25
pins: 1, 2

## 885342208001
designator C?, comment 22nF, 200V
WCAP-CSMH Multilayer Ceramic Chip Capacitor, size 1206, X7R Class II, 22nF, 200V; Manufacturer Part Number: 885342208001; Manufacturer: Wurth Elektronik; Rated Voltage: 200VDC; Insulation Resistance: 4.545GOhm; Dissipation Factor: 2.5%; Capacitance Tolerance: +/-10%; Technical Reference: X7R1206223K200DFCT10000; ComponentLink1Description: Manufacturer; ComponentLink1URL: http://www.we-online.de; ComponentLink2Description: Datasheet; ComponentLink2URL: https://www.we-online.com/catalog/datasheet/885342208001.pdf; Mounting Technology: SMT; Operating Temperature: -55 to +125degC; Published Date: May 2020; Packaging: Tape and Reel; Ceramic Type: X7R Class II; Capacitance: 22nF; Height: 1.25mm; Size: 1206
footprint WCAP-CSMH_1206_H1.25
pins: 1, 2

## 885342208002
designator C?, comment 100nF, 200V
WCAP-CSMH Multilayer Ceramic Chip Capacitor, size 1206, X7R Class II, 100nF, 200V; Manufacturer Part Number: 885342208002; Manufacturer: Wurth Elektronik; Rated Voltage: 200VDC; Insulation Resistance: 1GOhm; Dissipation Factor: 2.5%; Capacitance Tolerance: +/-10%; Technical Reference: X7R1206104K200DFCT10000; ComponentLink1Description: Manufacturer; ComponentLink1URL: http://www.we-online.de; ComponentLink2Description: Datasheet; ComponentLink2URL: https://www.we-online.com/catalog/datasheet/885342208002.pdf; Mounting Technology: SMT; Operating Temperature: -55 to +125degC; Published Date: May 2020; Packaging: Tape and Reel; Ceramic Type: X7R Class II; Capacitance: 100nF; Height: 1.6mm; Size: 1206
footprint WCAP-CSMH_1206_H1.6
pins: 1, 2

## 885342208003
designator C?, comment 10nF, 250V
WCAP-CSMH Multilayer Ceramic Chip Capacitor, size 1206, X7R Class II, 10nF, 250V; Manufacturer Part Number: 885342208003; Manufacturer: Wurth Elektronik; Rated Voltage: 250VDC; Insulation Resistance: 10GOhm; Dissipation Factor: 2.5%; Capacitance Tolerance: +/-10%; Technical Reference: X7R1206103K250DFCT10000; ComponentLink1Description: Manufacturer; ComponentLink1URL: http://www.we-online.de; ComponentLink2Description: Datasheet; ComponentLink2URL: https://www.we-online.com/catalog/datasheet/885342208003.pdf; Mounting Technology: SMT; Operating Temperature: -55 to +125degC; Published Date: May 2020; Packaging: Tape and Reel; Ceramic Type: X7R Class II; Capacitance: 10nF; Height: 1.25mm; Size: 1206
footprint WCAP-CSMH_1206_H1.25
pins: 1, 2

## 885342208004
designator C?, comment 100nF, 250V
WCAP-CSMH Multilayer Ceramic Chip Capacitor, size 1206, X7R Class II, 100nF, 250V; Manufacturer Part Number: 885342208004; Manufacturer: Wurth Elektronik; Rated Voltage: 250VDC; Insulation Resistance: 1GOhm; Dissipation Factor: 2.5%; Capacitance Tolerance: +/-10%; Technical Reference: X7R1206104K250DFCT10000; ComponentLink1Description: Manufacturer; ComponentLink1URL: http://www.we-online.de; ComponentLink2Description: Datasheet; ComponentLink2URL: https://www.we-online.com/catalog/datasheet/885342208004.pdf; Mounting Technology: SMT; Operating Temperature: -55 to +125degC; Published Date: May 2020; Packaging: Tape and Reel; Ceramic Type: X7R Class II; Capacitance: 100nF; Height: 1.6mm; Size: 1206
footprint WCAP-CSMH_1206_H1.6
pins: 1, 2

## 885342208005
designator C?, comment 470pF, 500V
WCAP-CSMH Multilayer Ceramic Chip Capacitor, size 1206, X7R Class II, 470pF, 500V; Manufacturer Part Number: 885342208005; Manufacturer: Wurth Elektronik; Rated Voltage: 500VDC; Insulation Resistance: 10GOhm; Dissipation Factor: 2.5%; Capacitance Tolerance: +/-10%; Technical Reference: X7R1206471K500DFCT10000; ComponentLink1Description: Manufacturer; ComponentLink1URL: http://www.we-online.de; ComponentLink2Description: Datasheet; ComponentLink2URL: https://www.we-online.com/catalog/datasheet/885342208005.pdf; Mounting Technology: SMT; Operating Temperature: -55 to +125degC; Published Date: May 2020; Packaging: Tape and Reel; Ceramic Type: X7R Class II; Capacitance: 470pF; Height: 1.25mm; Size: 1206
footprint WCAP-CSMH_1206_H1.25
pins: 1, 2

## 885342208006
designator C?, comment 1nF, 500V
WCAP-CSMH Multilayer Ceramic Chip Capacitor, size 1206, X7R Class II, 1nF, 500V; Manufacturer Part Number: 885342208006; Manufacturer: Wurth Elektronik; Rated Voltage: 500VDC; Insulation Resistance: 10GOhm; Dissipation Factor: 2.5%; Capacitance Tolerance: +/-10%; Technical Reference: X7R1206102K500DFCT10000; ComponentLink1Description: Manufacturer; ComponentLink1URL: http://www.we-online.de; ComponentLink2Description: Datasheet; ComponentLink2URL: https://www.we-online.com/catalog/datasheet/885342208006.pdf; Mounting Technology: SMT; Operating Temperature: -55 to +125degC; Published Date: May 2020; Packaging: Tape and Reel; Ceramic Type: X7R Class II; Capacitance: 1nF; Height: 1.25mm; Size: 1206
footprint WCAP-CSMH_1206_H1.25
pins: 1, 2

## 885342208007
designator C?, comment 2.2nF, 500V
WCAP-CSMH Multilayer Ceramic Chip Capacitor, size 1206, X7R Class II, 2.2nF, 500V; Manufacturer Part Number: 885342208007; Manufacturer: Wurth Elektronik; Rated Voltage: 500VDC; Insulation Resistance: 10GOhm; Dissipation Factor: 2.5%; Capacitance Tolerance: +/-10%; Technical Reference: X7R1206222K500DFCT10000; ComponentLink1Description: Manufacturer; ComponentLink1URL: http://www.we-online.de; ComponentLink2Description: Datasheet; ComponentLink2URL: https://www.we-online.com/catalog/datasheet/885342208007.pdf; Mounting Technology: SMT; Operating Temperature: -55 to +125degC; Published Date: May 2020; Packaging: Tape and Reel; Ceramic Type: X7R Class II; Capacitance: 2.2nF; Height: 1.25mm; Size: 1206
footprint WCAP-CSMH_1206_H1.25
pins: 1, 2

## 885342208008
designator C?, comment 4.7nF, 500V
WCAP-CSMH Multilayer Ceramic Chip Capacitor, size 1206, X7R Class II, 4.7nF, 500V; Manufacturer Part Number: 885342208008; Manufacturer: Wurth Elektronik; Rated Voltage: 500VDC; Insulation Resistance: 10GOhm; Dissipation Factor: 2.5%; Capacitance Tolerance: +/-10%; Technical Reference: X7R1206472K500DFCT10000; ComponentLink1Description: Manufacturer; ComponentLink1URL: http://www.we-online.de; ComponentLink2Description: Datasheet; ComponentLink2URL: https://www.we-online.com/catalog/datasheet/885342208008.pdf; Mounting Technology: SMT; Operating Temperature: -55 to +125degC; Published Date: May 2020; Packaging: Tape and Reel; Ceramic Type: X7R Class II; Capacitance: 4.7nF; Height: 1.25mm; Size: 1206
footprint WCAP-CSMH_1206_H1.25
pins: 1, 2

## 885342208009
designator C?, comment 10nF, 500V
WCAP-CSMH Multilayer Ceramic Chip Capacitor, size 1206, X7R Class II, 10nF, 500V; Manufacturer Part Number: 885342208009; Manufacturer: Wurth Elektronik; Rated Voltage: 500VDC; Insulation Resistance: 10GOhm; Dissipation Factor: 2.5%; Capacitance Tolerance: +/-10%; Technical Reference: X7R1206103K500DFCT10000; ComponentLink1Description: Manufacturer; ComponentLink1URL: http://www.we-online.de; ComponentLink2Description: Datasheet; ComponentLink2URL: https://www.we-online.com/catalog/datasheet/885342208009.pdf; Mounting Technology: SMT; Operating Temperature: -55 to +125degC; Published Date: May 2020; Packaging: Tape and Reel; Ceramic Type: X7R Class II; Capacitance: 10nF; Height: 1.25mm; Size: 1206
footprint WCAP-CSMH_1206_H1.25
pins: 1, 2

## 885342208010
designator C?, comment 22nF, 500V
WCAP-CSMH Multilayer Ceramic Chip Capacitor, size 1206, X7R Class II, 22nF, 500V; Manufacturer Part Number: 885342208010; Manufacturer: Wurth Elektronik; Rated Voltage: 500VDC; Insulation Resistance: 4.545GOhm; Dissipation Factor: 2.5%; Capacitance Tolerance: +/-10%; Technical Reference: X7R1206223K500DFCT10000; ComponentLink1Description: Manufacturer; ComponentLink1URL: http://www.we-online.de; ComponentLink2Description: Datasheet; ComponentLink2URL: https://www.we-online.com/catalog/datasheet/885342208010.pdf; Mounting Technology: SMT; Operating Temperature: -55 to +125degC; Published Date: May 2020; Packaging: Tape and Reel; Ceramic Type: X7R Class II; Capacitance: 22nF; Height: 1.6mm; Size: 1206
footprint WCAP-CSMH_1206_H1.6
pins: 1, 2

## 885342208011
designator C?, comment 1nF, 630V
WCAP-CSMH Multilayer Ceramic Chip Capacitor, size 1206, X7R Class II, 1nF, 630V; Manufacturer Part Number: 885342208011; Manufacturer: Wurth Elektronik; Rated Voltage: 630VDC; Insulation Resistance: 10GOhm; Dissipation Factor: 2.5%; Capacitance Tolerance: +/-10%; Technical Reference: X7R1206102K630DFCT10000; ComponentLink1Description: Manufacturer; ComponentLink1URL: http://www.we-online.de; ComponentLink2Description: Datasheet; ComponentLink2URL: https://www.we-online.com/catalog/datasheet/885342208011.pdf; Mounting Technology: SMT; Operating Temperature: -55 to +125degC; Published Date: May 2020; Packaging: Tape and Reel; Ceramic Type: X7R Class II; Capacitance: 1nF; Height: 1.25mm; Size: 1206
footprint WCAP-CSMH_1206_H1.25
pins: 1, 2

## 885342208012
designator C?, comment 10nF, 630V
WCAP-CSMH Multilayer Ceramic Chip Capacitor, size 1206, X7R Class II, 10nF, 630V; Manufacturer Part Number: 885342208012; Manufacturer: Wurth Elektronik; Rated Voltage: 630VDC; Insulation Resistance: 10GOhm; Dissipation Factor: 2.5%; Capacitance Tolerance: +/-10%; Technical Reference: X7R1206103K630DFCT10000; ComponentLink1Description: Manufacturer; ComponentLink1URL: http://www.we-online.de; ComponentLink2Description: Datasheet; ComponentLink2URL: https://www.we-online.com/catalog/datasheet/885342208012.pdf; Mounting Technology: SMT; Operating Temperature: -55 to +125degC; Published Date: May 2020; Packaging: Tape and Reel; Ceramic Type: X7R Class II; Capacitance: 10nF; Height: 1.25mm; Size: 1206
footprint WCAP-CSMH_1206_H1.25
pins: 1, 2

## 885342208013
designator C?, comment 15nF, 630V
WCAP-CSMH Multilayer Ceramic Chip Capacitor, size 1206, X7R Class II, 15nF, 630V; Manufacturer Part Number: 885342208013; Manufacturer: Wurth Elektronik; Rated Voltage: 630VDC; Insulation Resistance: 6.667GOhm; Dissipation Factor: 2.5%; Capacitance Tolerance: +/-10%; Technical Reference: X7R1206153K630DFCT10000; ComponentLink1Description: Manufacturer; ComponentLink1URL: http://www.we-online.de; ComponentLink2Description: Datasheet; ComponentLink2URL: https://www.we-online.com/catalog/datasheet/885342208013.pdf; Mounting Technology: SMT; Operating Temperature: -55 to +125degC; Published Date: May 2020; Packaging: Tape and Reel; Ceramic Type: X7R Class II; Capacitance: 15nF; Height: 1.25mm; Size: 1206
footprint WCAP-CSMH_1206_H1.25
pins: 1, 2

## 885342208014
designator C?, comment 22nF, 630V
WCAP-CSMH Multilayer Ceramic Chip Capacitor, size 1206, X7R Class II, 22nF, 630V; Manufacturer Part Number: 885342208014; Manufacturer: Wurth Elektronik; Rated Voltage: 630VDC; Insulation Resistance: 4.545GOhm; Dissipation Factor: 2.5%; Capacitance Tolerance: +/-10%; Technical Reference: X7R1206223K630DFCT10000; ComponentLink1Description: Manufacturer; ComponentLink1URL: http://www.we-online.de; ComponentLink2Description: Datasheet; ComponentLink2URL: https://www.we-online.com/catalog/datasheet/885342208014.pdf; Mounting Technology: SMT; Operating Temperature: -55 to +125degC; Published Date: May 2020; Packaging: Tape and Reel; Ceramic Type: X7R Class II; Capacitance: 22nF; Height: 1.6mm; Size: 1206
footprint WCAP-CSMH_1206_H1.6
pins: 1, 2

## 885342208015
designator C?, comment 33nF, 630V
WCAP-CSMH Multilayer Ceramic Chip Capacitor, size 1206, X7R Class II, 33nF, 630V; Manufacturer Part Number: 885342208015; Manufacturer: Wurth Elektronik; Rated Voltage: 630VDC; Insulation Resistance: 3.03GOhm; Dissipation Factor: 2.5%; Capacitance Tolerance: +/-10%; Technical Reference: X7R1206333K630DFCT10000; ComponentLink1Description: Manufacturer; ComponentLink1URL: http://www.we-online.de; ComponentLink2Description: Datasheet; ComponentLink2URL: https://www.we-online.com/catalog/datasheet/885342208015.pdf; Mounting Technology: SMT; Operating Temperature: -55 to +125degC; Published Date: May 2020; Packaging: Tape and Reel; Ceramic Type: X7R Class II; Capacitance: 33nF; Height: 1.6mm; Size: 1206
footprint WCAP-CSMH_1206_H1.6
pins: 1, 2

## 885342208016
designator C?, comment 150pF, 1000V
WCAP-CSMH Multilayer Ceramic Chip Capacitor, size 1206, X7R Class II, 150pF, 1000V; Manufacturer Part Number: 885342208016; Manufacturer: Wurth Elektronik; Rated Voltage: 1000VDC; Insulation Resistance: 10GOhm; Dissipation Factor: 2.5%; Capacitance Tolerance: +/-10%; Technical Reference: X7R1206151KA00DFCT10000; ComponentLink1Description: Manufacturer; ComponentLink1URL: http://www.we-online.de; ComponentLink2Description: Datasheet; ComponentLink2URL: https://www.we-online.com/catalog/datasheet/885342208016.pdf; Mounting Technology: SMT; Operating Temperature: -55 to +125degC; Published Date: May 2020; Packaging: Tape and Reel; Ceramic Type: X7R Class II; Capacitance: 150pF; Height: 1.25mm; Size: 1206
footprint WCAP-CSMH_1206_H1.25
pins: 1, 2